# Altium footprint library VioletofSun.PcbLib: 319 footprints (part 6 of 20)
Each footprint in its own frame and in the unit in brackets; x right, y up, seen from the top. Pads: shape width x height; smd on the part's side, far side on the other; paste and mask are expansions set on the pad; w line width, h text height; cw(c..) or ccw(c..) is an arc to the next point about the centre after c.
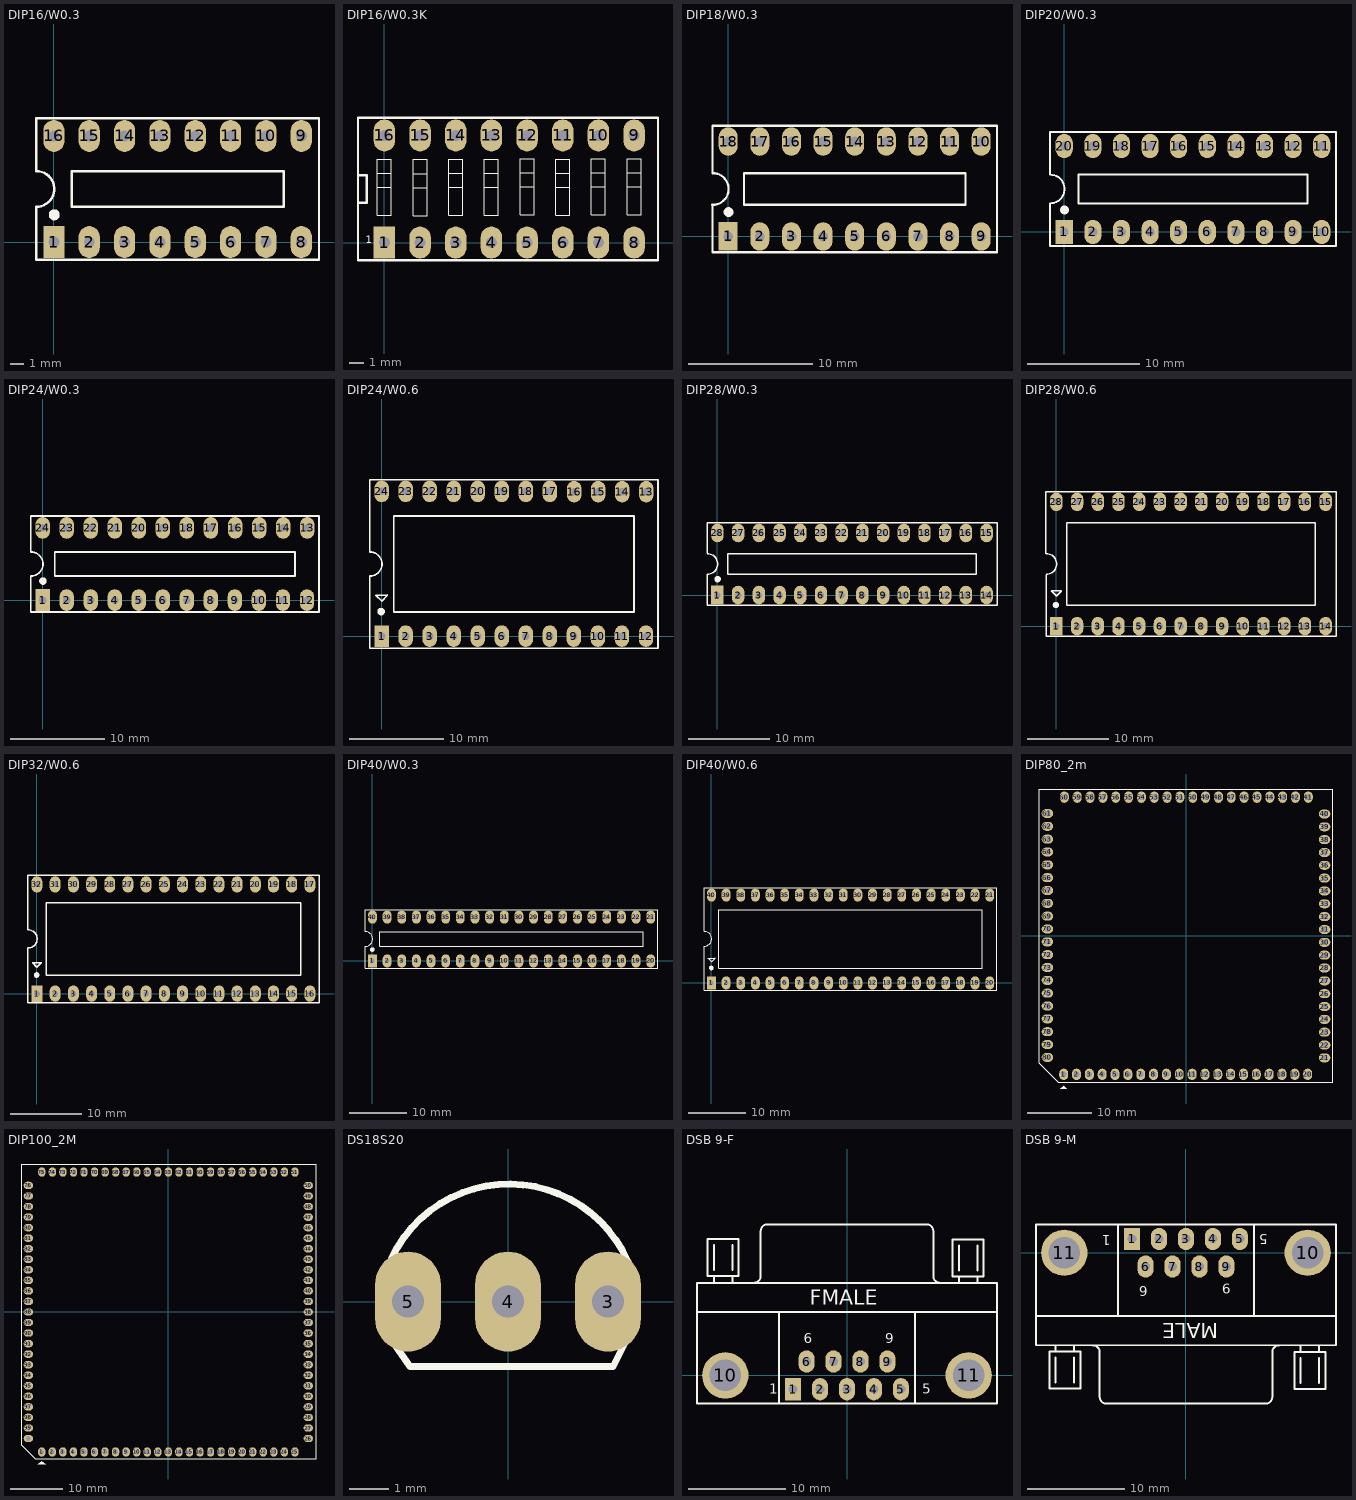
[diagram p5: the footprints below, top view; thin cyan lines are the x and y axes]

## DIP16/W0.3 [mil] "16 PIN, W 300mil, Pin to pin 100mil"
height 100
pads (16):
  rect 60x90 hole 31: 1(0,0)
  oval 60x90 hole 31: 2(100,0) 3(200,0) 4(300,0) 5(400,0) 6(500,0) 7(600,0) 8(700,0) 9(700,300) 10(600,300) 11(500,300) 12(400,300) 13(300,300) 14(200,300) 15(100,300) 16(0,300)
Top Overlay:
  circle w15: c1,77 r8
  lines w7: -50.38,100.05 ccw(c-48.69,150.02) -50,200 ; -50,100 -50,-50 750,-50 750,350 -49,350 -50,349 ; -50,201 -50,350 ; 50,100 650,100 650,200 50,200 50,100
3D body: height 317.48, standoff -113.06, extent -51.7,-53.39 751.7,360

## DIP16/W0.3K [mil] "16 PIN, W 300mil, Pin to pin 100mil For Switch"
height 100
pads (16):
  rect 60x90 hole 31.5: 1(0,0)
  oval 60x90 hole 31.5: 2(100,0) 3(200,0) 4(300,0) 5(400,0) 6(500,0) 7(600,0) 8(700,0) 9(700,300) 10(600,300) 11(500,300) 12(400,300) 13(300,300) 14(200,300) 15(100,300) 16(0,300)
Top Overlay:
  lines w1.5: -19.68,155 19.68,155 ; -19.68,194.37 19.68,194.37 ; 80.31,154 119.69,154 ; 80.31,193.37 119.69,193.37 ; 180.31,155 219.69,155 ; 180.31,194.37 219.69,194.37 ; 280.31,155 319.69,155 ; 280.31,194.37 319.69,194.37 ; 380.31,156 419.69,156 ; 380.31,195.37 419.69,195.37 ; 480.31,155 519.68,155 ; 480.31,194.37 519.68,194.37 ; 580.32,156 619.68,156 ; 580.32,195.37 619.68,195.37 ; 680.32,156 719.68,156 ; 680.32,195.37 719.68,195.37 ; -19.68,76.26 19.68,76.26 19.68,233.74 -19.68,233.74 -19.68,76.26 ; 80.31,75.26 119.69,75.26 119.69,232.74 80.31,232.74 80.31,75.26 ; 180.31,76.26 219.69,76.26 219.69,233.74 180.31,233.74 180.31,76.26 ; 280.31,76.26 319.69,76.26 319.69,233.74 280.31,233.74 280.31,76.26 ; 380.31,77.26 419.69,77.26 419.69,234.74 380.31,234.74 380.31,77.26 ; 480.31,76.26 519.68,76.26 519.68,233.74 480.31,233.74 480.31,76.26 ; 580.32,77.26 619.68,77.26 619.68,234.74 580.32,234.74 580.32,77.26 ; 680.32,77.26 719.68,77.26 719.68,234.74 680.32,234.74 680.32,77.26
  lines w7: -74,69.5 -74,234 ; -74,111 -49,111 -49,189 -73,189 -74,190 ; -74,125 -74,-49 -73,-50 767,-50 767,350 -74,350 -74,175
  text "1" at -52,-2 h20
3D body: height 324.8, standoff -137.8, extent -92.91,-40 792.91,345.04

## DIP18/W0.3 [mil] "18 PIN, W 300mil, Pin to pin 100mil"
height 100
pads (18):
  rect 60x90 hole 31: 1(0,0)
  oval 60x90 hole 31: 2(100,0) 3(200,0) 4(300,0) 5(400,0) 6(500,0) 7(600,0) 8(700,0) 9(800,0) 10(800,300) 11(700,300) 12(600,300) 13(500,300) 14(400,300) 15(300,300) 16(200,300) 17(100,300) 18(0,300)
Top Overlay:
  circle w15: c1,77 r8
  lines w7: -50.38,100.05 ccw(c-48.69,150.02) -50,200 ; -50,100 -50,-50 850,-50 850,350 -50,350 -50,201 ; 50,100 50,200 750,200 750,100 50,100
3D body: height 136.77, standoff -113.06, extent -50,-56.69 850.35,356.69

## DIP20/W0.3 [mil] "DIP 20, 20 PIN, W 300mil, Pin to pin 100mil"
height 100
pads (20):
  rect 60x85 hole 31: 1(0,0)
  oval 60x85 hole 31: 2(100,0) 3(200,0) 4(300,0) 5(400,0) 6(500,0) 7(600,0) 8(700,0) 9(800,0) 10(900,0) 11(900,300) 12(800,300) 13(700,300) 14(600,300) 15(500,300) 16(400,300) 17(300,300) 18(200,300) 19(100,300) 20(0,300)
Top Overlay:
  circle w15: c1,77 r8
  lines w7: -50.38,100.05 ccw(c-48.69,150.02) -50,200 ; -50,100 -50,-50 950,-50 950,350 -50,350 -50,201 ; 50,100 50,200 850,200 850,100 50,100
3D body: height 155, standoff -130, extent -78,-20 958,320

## DIP24/W0.3 [mil] "DIP24/W.300, Pin to pin 100mil"
height 100
pads (24):
  rect 60x90 hole 31: 1(0,0)
  oval 60x90 hole 31: 2(100,0) 3(200,0) 4(300,0) 5(400,0) 6(500,0) 7(600,0) 8(700,0) 9(800,0) 10(900,0) 11(1000,0) 12(1100,0) 13(1101,300) 14(1001,300) 15(901,300) 16(801,300) 17(700,300) 18(600,300) 19(500,300) 20(400,300) 21(300,300) 22(200,300) 23(100,300) 24(0,300)
Top Overlay:
  circle w15: c1,79 r8
  lines w7: -50.38,100.05 ccw(c-48.69,150.02) -50,200 ; -50,100 -50,-50 1150,-50 1150,350 -50,350 -50,201 ; 50,100 1050,100 1050,200 50,200 50,100
3D body: height 200, standoff -98.03, extent -90,5.08 1180.08,314.92

## DIP24/W0.6 [mil] "DIP24/W.600, Pin to pin 100mil"
height 100
pads (24):
  rect 60x90 hole 31: 1(0,0)
  oval 60x90 hole 31: 2(100,0) 3(200,0) 4(300,0) 5(400,0) 6(500,0) 7(600,0) 8(700,0) 9(800,0) 10(900,0) 11(1000,0) 12(1100,0) 13(1101,601) 14(1001,601) 15(901,601) 16(801,601) 17(700,602) 18(600,602) 19(500,602) 20(400,602) 21(300,602) 22(200,602) 23(100,602) 24(0,602)
Top Overlay:
  circle w15: c-2,102 r8
  lines w7: -50,350 -50,650 1150,650 1150,-50 -50,-50 -50,250 ccw(c-48.31,299.97) -49.62,349.95 ; -25,170 -24,170 0,146 0,145 24,169 24,171 23,170 -25,170 ; 50,100 1050,100 1050,500 50,500 50,100
3D body: height 227.95, standoff -129.92, extent -82.52,0.16 1202.52,600

## DIP28/W0.3 [mil] "28 PIN, W 300mil, Pin to pin 100mil"
height 100
pads (28):
  rect 60x90 hole 31: 1(0,0)
  oval 60x90 hole 31: 2(100,0) 3(200,0) 4(300,0) 5(400,0) 6(500,0) 7(600,0) 8(700,0) 9(800,0) 10(900,0) 11(1000,0) 12(1100,0) 13(1200,0) 14(1300,0) 15(1300,300) 16(1200,300) 17(1100,300) 18(1000,300) 19(900,300) 20(800,300) 21(700,300) 22(600,300) 23(500,300) 24(400,300) 25(300,300) 26(200,300) 27(100,300) 28(0,300)
Top Overlay:
  circle w15: c1,77 r8
  lines w7: -50.38,100.05 ccw(c-48.69,150.02) -50,200 ; -50,100 -50,-50 1350,-50 1350,350 -50,350 -50,201 ; 50,100 50,200 1250,200 1250,100 50,100
3D body: height 200, standoff -98.03, extent -50,-10 1367.32,299.84

## DIP28/W0.6 [mil] "DIP28/W.600, Pin to pin 100mil"
height 100
pads (28):
  rect 60x90 hole 31: 1(0,0)
  oval 60x90 hole 31: 2(100,0) 3(200,0) 4(300,0) 5(400,0) 6(500,0) 7(600,0) 8(700,0) 9(800,0) 10(900,0) 11(1000,0) 12(1100,0) 13(1200,0) 14(1300,0) 15(1300,600) 16(1200,600) 17(1100,600) 18(1000,600) 19(900,600) 20(800,600) 21(700,600) 22(600,600) 23(500,600) 24(400,600) 25(300,600) 26(200,600) 27(100,600) 28(0,600)
Top Overlay:
  circle w15: c-2,102 r8
  lines w7: -51,350 -51,650 1350,650 1350,-50 -50,-50 -50,249 ; -50,250 ccw(c-48.31,299.97) -49.62,349.95 ; -25,170 23,170 24,171 24,169 0,145 0,146 -24,170 -25,170 ; 50,100 50,500 1250,500 1250,100 50,100
3D body: height 224.41, standoff -101.57, extent -84.25,0.16 1384.25,610

## DIP32/W0.6 [mil] "DIP32/W.600, Pin to pin 100mil"
height 100
pads (32):
  rect 60x90 hole 31: 1(0,0)
  oval 60x90 hole 31: 2(100,0) 3(200,0) 4(300,0) 5(400,0) 6(500,0) 7(600,0) 8(700,0) 9(800,0) 10(900,0) 11(1000,0) 12(1100,0) 13(1200,0) 14(1300,0) 15(1400,0) 16(1500,0) 17(1500,600) 18(1400,600) 19(1300,600) 20(1200,600) 21(1100,600) 22(1000,600) 23(900,600) 24(800,600) 25(700,600) 26(600,600) 27(500,600) 28(400,600) 29(300,600) 30(200,600) 31(100,600) 32(0,600)
Top Overlay:
  circle w15: c-2,102 r8
  lines w7: -50.38,251.05 ccw(c-48.69,301.02) -50,351 ; -50,251 -50,-50 1550,-50 1550,650 -50,650 -50,352 ; -25,170 -24,170 0,146 0,145 24,169 24,171 23,170 -25,170 ; 50,100 50,500 1450,500 1450,100 50,100
3D body: height 227.95, standoff -129.92, extent -77.56,0 1577.56,601.81

## DIP40/W0.3 [mil] "40 PIN, W 300mil, Pin to pin 100mil"
height 100
pads (40):
  rect 60x90 hole 31: 1(0,0)
  oval 60x90 hole 31: 2(100,0) 3(200,0) 4(300,0) 5(400,0) 6(500,0) 7(600,0) 8(700,0) 9(800,0) 10(900,0) 11(1000,0) 12(1100,0) 13(1200,0) 14(1300,0) 15(1400,0) 16(1500,0) 17(1600,0) 18(1700,0) 19(1800,0) 20(1900,0) 21(1900,300) 22(1800,300) 23(1700,300) 24(1600,300) 25(1500,300) 26(1400,300) 27(1300,300) 28(1200,300) 29(1100,300) 30(1000,300) 31(900,300) 32(800,300) 33(700,300) 34(600,300) 35(500,300) 36(400,300) 37(300,300) 38(200,300) 39(100,300) 40(0,300)
Top Overlay:
  circle w15: c-1,78 r8
  lines w7: -50.38,100.05 ccw(c-48.69,150.02) -50,200 ; -50,100 -50,-50 1950,-50 1950,350 -50,350 -50,201 ; 50,100 1850,100 1850,200 50,200 50,100
3D body: height 227.95, standoff -129.92, extent -70,-160.91 2000.87,440.91

## DIP40/W0.6 [mil] "40 PIN, W 600mil, Pin to pin 100mil"
height 100
pads (40):
  rect 60x90 hole 31: 1(0,0)
  oval 60x90 hole 31: 2(100,0) 3(200,0) 4(300,0) 5(400,0) 6(500,0) 7(600,0) 8(700,0) 9(800,0) 10(900,0) 11(1000,0) 12(1100,0) 13(1200,0) 14(1300,0) 15(1400,0) 16(1500,0) 17(1600,0) 18(1700,0) 19(1800,0) 20(1900,0) 21(1900,600) 22(1800,600) 23(1700,600) 24(1600,600) 25(1500,600) 26(1400,600) 27(1300,600) 28(1200,600) 29(1100,600) 30(1000,600) 31(900,600) 32(800,600) 33(700,600) 34(600,600) 35(500,600) 36(400,600) 37(300,600) 38(200,600) 39(100,600) 40(0,600)
Top Overlay:
  circle w15: c-1,102 r8
  lines w7: -50.38,251.05 ccw(c-48.69,301.02) -50,351 ; -50,251 -50,-50 1950,-50 1950,650 -50,650 -50,352 ; -24,170 -23,170 1,146 1,145 25,169 25,171 24,170 -24,170 ; 50,100 1850,100 1850,500 50,500 50,100
3D body: height 224.41, standoff -101.57, extent -82.48,-10 1982.48,599.84

## DIP80_2m [mil] "DIP80, P - P 200"
pads (80):
  oval 55x70 hole 35: 1(-750,-850) 2(-671.26,-850) 3(-592.52,-850) 4(-513.78,-850) 5(-435.04,-850) 6(-356.3,-850) 7(-277.56,-850) 8(-198.82,-850) 9(-120.08,-850) 10(-41.34,-850) 11(37.4,-850) 12(116.14,-850) 13(194.88,-850) 14(273.62,-850) 15(352.36,-850) 16(431.1,-850) 17(509.84,-850) 18(588.58,-850) 19(667.32,-850) 20(746.06,-850) 41(750,850) 42(671.26,850) 43(592.52,850) 44(513.78,850) 45(435.04,850) 46(356.3,850) 47(277.56,850) 48(198.82,850) 49(120.08,850) 50(41.34,850) 51(-37.4,850) 52(-116.14,850) 53(-194.88,850) 54(-273.62,850) 55(-352.36,850) 56(-431.1,850) 57(-509.84,850) 58(-588.58,850) 59(-667.32,850) 60(-746.06,850)
  oval 70x55 hole 35: 21(850,-749) 22(850,-670.26) 23(850,-591.52) 24(850,-512.78) 25(850,-434.04) 26(850,-355.3) 27(850,-276.56) 28(850,-197.82) 29(850,-119.08) 30(850,-40.34) 31(850,38.4) 32(850,117.14) 33(850,195.88) 34(850,274.62) 35(850,353.36) 36(850,432.1) 37(850,510.84) 38(850,589.58) 39(850,668.32) 40(850,747.06) 61(-850,750) 62(-850,671.26) 63(-850,592.52) 64(-850,513.78) 65(-850,435.04) 66(-850,356.3) 67(-850,277.56) 68(-850,198.82) 69(-850,120.08) 70(-850,41.34) 71(-850,-37.4) 72(-850,-116.14) 73(-850,-194.88) 74(-850,-273.62) 75(-850,-352.36) 76(-850,-431.1) 77(-850,-509.84) 78(-850,-588.58) 79(-850,-667.32) 80(-850,-746.06)
Top Overlay:
  region: -770,-940 -750,-920 -730,-940
  lines w7: -900,-783 -783,-900 900,-900 900,900 -900,900 -900,-783

## DIP100_2M [mil] "DIP100 - P-P 2mm"
pads (100):
  oval 55x70 hole 35: 1(-945,-1045) 2(-866.26,-1045) 3(-787.52,-1045) 4(-708.78,-1045) 5(-630.04,-1045) 6(-551.3,-1045) 7(-472.56,-1045) 8(-393.82,-1045) 9(-315.08,-1045) 10(-236.34,-1045) 11(-157.6,-1045) 12(-78.86,-1045) 13(-0.12,-1045) 14(78.62,-1045) 15(157.36,-1045) 16(236.1,-1045) 17(314.84,-1045) 18(393.58,-1045) 19(472.32,-1045) 20(551.06,-1045) 21(629.8,-1045) 22(708.54,-1045) 23(787.28,-1045) 24(866.02,-1045) 25(944.76,-1045) 51(945,1045) 52(866.26,1045) 53(787.52,1045) 54(708.78,1045) 55(630.04,1045) 56(551.3,1045) 57(472.56,1045) 58(393.82,1045) 59(315.08,1045) 60(236.34,1045) 61(157.6,1045) 62(78.86,1045) 63(0.12,1045) 64(-78.62,1045) 65(-157.36,1045) 66(-236.1,1045) 67(-314.84,1045) 68(-393.58,1045) 69(-472.32,1045) 70(-551.06,1045) 71(-629.8,1045) 72(-708.54,1045) 73(-787.28,1045) 74(-866.02,1045) 75(-944.76,1045)
  oval 70x55 hole 35: 26(1045,-945) 27(1045,-866.26) 28(1045,-787.52) 29(1045,-708.78) 30(1045,-630.04) 31(1045,-551.3) 32(1045,-472.56) 33(1045,-393.82) 34(1045,-315.08) 35(1045,-236.34) 36(1045,-157.6) 37(1045,-78.86) 38(1045,-0.12) 39(1045,78.62) 40(1045,157.36) 41(1045,236.1) 42(1045,314.84) 43(1045,393.58) 44(1045,472.32) 45(1045,551.06) 46(1045,629.8) 47(1045,708.54) 48(1045,787.28) 49(1045,866.02) 50(1045,944.76) 76(-1045,945) 77(-1045,866.26) 78(-1045,787.52) 79(-1045,708.78) 80(-1045,630.04) 81(-1045,551.3) 82(-1045,472.56) 83(-1045,393.82) 84(-1045,315.08) 85(-1045,236.34) 86(-1045,157.6) 87(-1045,78.86) 88(-1045,0.12) 89(-1045,-78.62) 90(-1045,-157.36) 91(-1045,-236.1) 92(-1045,-314.84) 93(-1045,-393.58) 94(-1045,-472.32) 95(-1045,-551.06) 96(-1045,-629.8) 97(-1045,-708.54) 98(-1045,-787.28) 99(-1045,-866.02) 100(-1045,-944.76)
Top Overlay:
  region: -945,-1115 -975,-1135 -915,-1135
  lines w7: -1095,-995 -995,-1095 1105,-1095 1105,1105 -1095,1105 -1095,-995

## DS18S20 [mil] "TO-92"
height 200
pads (3):
  oval 66x100 hole 32: 3(100,0) 4(0,0) 5(-100,0)
Top Overlay:
  lines w7: -116.52,43.21 cw(c0.97,-12.43) 119.94,39.97 ; -115.34,-40.24 -98,-65 105,-65 118,-39

## DSB 9-F [mil] "COM FMALE - D Subminiature; 9 Position; Right Angle; Pitch 1.385 mm"
height 501.97
pads (11):
  rect 65x90 hole 35: 1(-218.11,-55.91)
  oval 65x90 hole 35: 2(-109.06,-55.91) 3(0,-55.91) 4(109.06,-55.91) 5(218.11,-55.91) 6(-163.58,55.91) 7(-54.53,55.91) 8(54.53,55.91) 9(163.58,55.91)
  round 187.4 hole 128.35: 10(-491.93,0) 11(491.93,0)
Top Overlay:
  lines w7.87: -606.3,255.91 606.3,255.91 ; -376.38,374.21 ccw(c-376.38,401.57) -349.02,401.57 -349.02,582.68 ; -348.82,582.87 cw(c-321.46,582.87) -321.46,610.24 321.46,610.24 cw(c321.46,582.87) 348.82,582.87 ; -275.59,-114.17 -275.59,255.91 ; 275.59,-114.17 275.59,255.91 ; 349.02,582.68 349.02,401.57 ccw(c376.38,401.57) 376.38,374.21 ; -606.3,-114.17 -606.3,374.02 606.3,374.02 606.3,-114.17 -606.3,-114.17
  lines w8: -538,376.02 -538,401.02 ; -538,426.02 -538,526.02 ; -463,376.02 -463,401.02 ; -463,426.02 -463,526.02 ; 452,374.02 452,399.02 ; 452,424.02 452,524.02 ; 527,374.02 527,399.02 ; 527,424.02 527,524.02 ; -563,401.02 -438,401.02 -438,551.02 -563,551.02 -563,401.02 ; 427,399.02 552,399.02 552,549.02 427,549.02 427,399.02
  text "1" at -315,-75 h40
  text "5" at 305,-75 h40
  text "9" at 155,130 h40
  text "6" at -175,130 h40
  text "FMALE" at -150,285 h60
3D body: height 531.94, standoff -87.06, extent -606.5,-130 606.5,621

## DSB 9-M [mil] "COM MALE D Subminiature; 9 Position; Right Angle; Pitch 1.385 mm"
height 501.97
pads (11):
  rect 65x90 hole 35: 1(-218.11,55.91)
  oval 65x90 hole 35: 2(-109.05,55.91) 3(0,55.91) 4(109.06,55.91) 5(218.11,55.91) 6(-163.58,-55.91) 7(-54.53,-55.91) 8(54.53,-55.91) 9(163.58,-55.91)
  round 187.4 hole 128.35: 10(491.93,0) 11(-491.93,0)
Top Overlay:
  lines w7.87: -606.3,-255.91 606.3,-255.91 ; -376.38,-374.21 cw(c-376.38,-401.57) -349.02,-401.57 -349.02,-582.68 ; -348.82,-582.87 ccw(c-321.46,-582.87) -321.46,-610.24 321.46,-610.24 ccw(c321.46,-582.87) 348.82,-582.87 ; -275.59,-255.91 -275.59,114.17 ; 275.59,-255.91 275.59,114.17 ; 349.02,-582.68 349.02,-401.57 cw(c376.38,-401.57) 376.38,-374.21 ; -606.3,-374.02 606.3,-374.02 606.3,114.17 -606.3,114.17 -606.3,-374.02
  lines w8: -527,-524.02 -527,-424.02 ; -527,-399.02 -527,-374.02 ; -452,-524.02 -452,-424.02 ; -452,-399.02 -452,-374.02 ; 463,-526.02 463,-426.02 ; 463,-401.02 463,-376.02 ; 538,-526.02 538,-426.02 ; 538,-401.02 538,-376.02 ; -552,-549.02 -427,-549.02 -427,-399.02 -552,-399.02 -552,-549.02 ; 438,-551.02 563,-551.02 563,-401.02 438,-401.02 438,-551.02
  text "6" at -155,-135 h40
  text "9" at 180,-125 h40
  text "5" at 330,75 h40
  text "1" at -305,70 h40
  text "MALE" at 130,-285 h60
3D body: height 473.04, standoff -145.96, extent -606,-637.5 610,137.5